# Altium schematic symbol library MAX232ECWE_.SchLib: 1 symbol
Pins are listed as number, name and electrical type; pins without a type are passive.

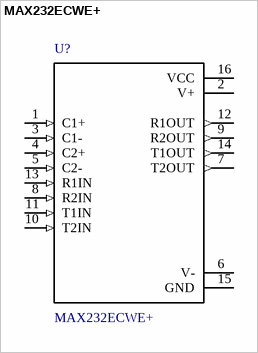
[diagram p0: symbol MAX232ECWE+]

## MAX232ECWE+
designator U?
Dual Transmitter/Receiver RS-232 16-Pin SOIC W; MF: Maxim Integrated; SnapEDA_Link: https://www.snapeda.com/parts/MAX232ECWE%2B/Maxim%20Integrated/view-part/?ref=snap; Availability: Unavailable; MP: MAX232ECWE+; Price: None; Package: SOIC-16 Maxim; Value: *
footprint *SOIC127P1032X265-16N
pins: 1 C1+ (in), 2 V+ (power), 3 C1- (in), 4 C2+ (in), 5 C2- (in), 6 V- (power), 7 T2OUT (out), 8 R2IN (in), 9 R2OUT (out), 10 T2IN (in), 11 T1IN (in), 12 R1OUT (out), 13 R1IN (in), 14 T1OUT (out), 15 GND (power), 16 VCC (power)